# Altium integrated library DIODE 1N4148W SOD-80 ,DO-213AC ,LLDS.IntLib: 1 symbol
Pins are listed as number, name and electrical type; pins without a type are passive.

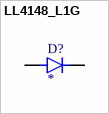
[diagram p0: symbol LL4148_L1G]

## LL4148_L1G
designator D?
MP: LL4148_L1G; Price: None; Package: None; Availability: Unavailable; Value: *
footprint DIOMELF3515N
pins: A, C K